# Altium schematic symbol library BB-HEADER-P16-P30.SchLib: 1 symbol
Pins are listed as number, name and electrical type; pins without a type are passive.

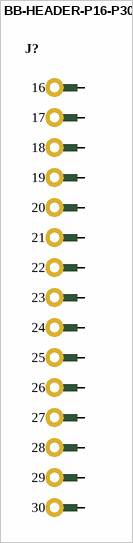
[diagram p0: symbol BB-HEADER-P16-P30]

## BB-HEADER-P16-P30
designator J?  (value not drawn)
BB Header, Vertical, Male, 0.1", 2.54mm, P16-P30
pins: 16, 17, 18, 19, 20, 21, 22, 23, 24, 25, 26, 27, 28, 29, 30